# Altium footprint library 1.25MM.PcbLib: 10 footprints
Each footprint in its own frame and in the unit in brackets; x right, y up, seen from the top. Pads: shape width x height; smd on the part's side, far side on the other; paste and mask are expansions set on the pad; w line width, h text height; cw(c..) or ccw(c..) is an arc to the next point about the centre after c.
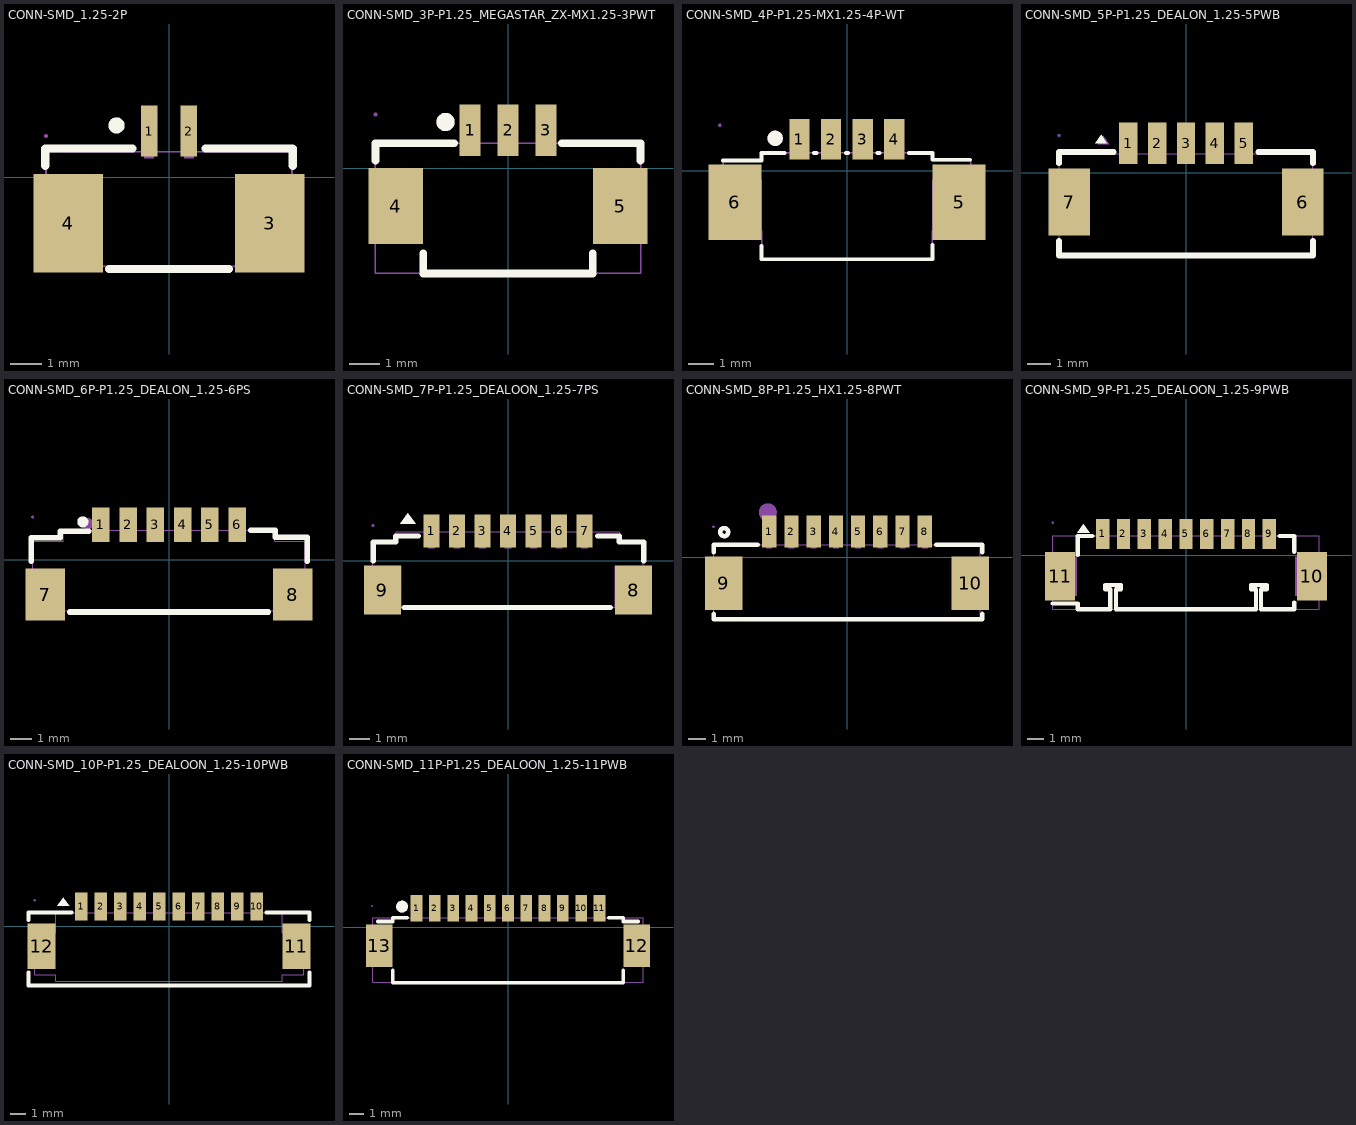
[diagram p0: the footprints below, top view; thin cyan lines are the x and y axes]

## CONN-SMD_1.25-2P [mm]
pads (4):
  rect 0.52x1.6 smd: 1(-0.625,1.45) 2(0.625,1.45)
  rect 2.2x3.1 smd: 3(3.175,-1.45) 4(-3.175,-1.45)
Top Overlay:
  circle w0.254: c-1.651,1.627 r0.127
  lines w0.254: -3.899,0.357 -3.899,0.901 -1.143,0.901 ; -1.894,-2.9 1.894,-2.9 ; 1.143,0.901 3.899,0.901 3.899,0.357
Mechanical 15:
  region: 0.775,1.292 0.775,0.592 0.475,0.592 0.475,1.292
  region: -0.475,1.292 -0.475,0.592 -0.775,0.592 -0.775,1.292
  region: 3.825,-2.803 2.625,-2.803 2.625,-0.503 3.825,-0.503
  region: -2.625,-2.803 -3.825,-2.803 -3.825,-0.503 -2.625,-0.503
  region: -3.815,1.292 -3.816,1.316 -3.851,1.349 -3.899,1.349 -3.934,1.316 -3.935,1.292 -3.934,1.268 -3.899,1.234 -3.851,1.234 -3.816,1.268 -3.815,1.292
  lines w0.051: -3.875,-2.804 3.875,-2.804 3.875,0.796 -3.875,0.796 -3.875,-2.804

## CONN-SMD_3P-P1.25_MEGASTAR_ZX-MX1.25-3PWT [mm]
pads (5):
  rect 0.7x1.7 smd paste+0 mask+0.05: 1(-1.25,1.25) 2(0,1.25) 3(1.25,1.25)
  rect 1.8x2.5 smd paste+0 mask+0.05: 4(-3.7,-1.25) 5(3.7,-1.25)
Top Overlay:
  circle w0.3: c-2.062,1.524 r0.15
  lines w0.254: -4.375,0.25 -4.375,0.825 -1.781,0.825 ; -2.8,-2.814 -2.8,-3.475 2.8,-3.475 2.8,-2.814 ; 1.781,0.825 4.375,0.825 4.375,0.25
Mechanical 6:
  circle w0.3: c-2.062,1.524 r0.15
Mechanical 15:
  region: 3.05,-0.25 4.35,-0.25 4.35,-2.25 3.05,-2.25
  region: -1.4,1.775 -1.1,1.775 -1.1,0.675 -1.4,0.675
  region: -0.15,1.775 0.15,1.775 0.15,0.675 -0.15,0.675
  region: 1.1,1.775 1.4,1.775 1.4,0.675 1.1,0.675
  region: -4.35,-0.25 -3.05,-0.25 -3.05,-2.25 -4.35,-2.25
  region: -4.315,1.775 -4.315,1.8 -4.35,1.835 -4.4,1.835 -4.435,1.8 -4.435,1.775 -4.435,1.75 -4.4,1.715 -4.35,1.715 -4.315,1.75 -4.315,1.775
  lines w0.051: -4.375,-3.475 -4.375,0.825 4.375,0.825 4.375,-3.475 -4.375,-3.475

## CONN-SMD_4P-P1.25-MX1.25-4P-WT [mm]
pads (6):
  rect 0.8x1.6 smd paste+0 mask+0.05: 1(-1.88,1.25) 2(-0.63,1.25) 3(0.62,1.25) 4(1.87,1.25)
  rect 2.1x3 smd paste+0 mask+0.05: 5(4.43,-1.25) 6(-4.43,-1.25)
Top Overlay:
  circle w0.3: c-2.84,1.28 r0.15
  lines w0.152: -4.901,0.399 -3.38,0.399 -3.38,0.43 -3.38,0.699 -2.46,0.699 ; -3.38,-2.98 -3.38,-3.5 3.38,-3.5 3.38,-2.93 ; -0.05,0.7 0.04,0.7 ; 1.2,0.7 1.29,0.7 ; 2.54,0.7 2.45,0.7 2.54,0.7 ; 2.54,0.7 3.38,0.7 3.38,0.43 4.87,0.43 ; 4.871,0.43 4.871,0.429 4.87,0.43 ; -1.3,0.7 -1.21,0.7 -1.3,0.7
Mechanical 6:
  circle w0.3: c-2.84,1.28 r0.15
Mechanical 15:
  region: -2.03,1.8 -1.73,1.8 -1.73,0.6 -2.03,0.6
  region: -0.78,1.8 -0.48,1.8 -0.48,0.6 -0.78,0.6
  region: 0.47,1.8 0.77,1.8 0.77,0.6 0.47,0.6
  region: 4.88,-0.36 5.025,-0.56 5.025,-2.17 4.88,-2.37 3.38,-2.37 3.38,-0.36
  region: -4.88,-2.37 -5.025,-2.17 -5.025,-0.56 -4.88,-0.36 -3.38,-0.36 -3.38,-2.37
  region: 1.72,1.8 2.02,1.8 2.02,0.6 1.72,0.6
  region: -4.965,1.8 -4.966,1.824 -5.001,1.858 -5.049,1.858 -5.084,1.824 -5.085,1.8 -5.084,1.776 -5.049,1.742 -5.001,1.742 -4.966,1.776 -4.965,1.8
  lines w0.051: -4.9,-2.369 -4.9,0.4 -3.38,0.4 -3.38,0.69 -3.38,0.7 3.38,0.7 3.38,0.4 4.9,0.4 4.9,-2.369 3.38,-2.369 3.38,-3.5 -3.38,-3.5 -3.38,-2.369 -4.9,-2.369

## CONN-SMD_5P-P1.25_DEALON_1.25-5PWB [mm]
pads (7):
  rect 0.8x1.8 smd paste+0 mask+0.05: 1(-2.5,1.275) 2(-1.25,1.275) 3(0,1.275) 4(1.25,1.275) 5(2.5,1.275)
  rect 1.8x2.9 smd paste+0 mask+0.05: 6(5.05,-1.275) 7(-5.05,-1.275)
Top Overlay:
  region: -3.683,1.651 -3.937,1.27 -3.429,1.27
  lines w0.254: -5.5,-2.956 -5.5,-3.589 5.5,-3.589 5.5,-2.956 ; -5.5,0.406 -5.5,0.889 -3.131,0.889 ; 3.131,0.889 5.5,0.889 5.5,0.406
Mechanical 6:
  region: -3.578,1.606 -3.832,1.225 -3.324,1.225
Mechanical 15:
  region: -5.44,1.611 -5.44,1.636 -5.475,1.671 -5.525,1.671 -5.56,1.636 -5.56,1.611 -5.56,1.586 -5.525,1.551 -5.475,1.551 -5.44,1.586 -5.44,1.611
  region: 2.35,1.611 2.65,1.611 2.65,0.711 2.35,0.711
  region: 1.1,1.611 1.4,1.611 1.4,0.711 1.1,0.711
  region: -0.15,1.611 0.15,1.611 0.15,0.711 -0.15,0.711
  region: -1.4,1.611 -1.1,1.611 -1.1,0.711 -1.4,0.711
  region: -2.65,1.611 -2.35,1.611 -2.35,0.711 -2.65,0.711
  region: 4.3,-0.275 5.5,-0.275 5.5,-2.275 4.3,-2.275
  region: -5.5,-0.275 -4.3,-0.275 -4.3,-2.275 -5.5,-2.275
  lines w0.051: -5.5,-3.589 -5.5,0.811 5.5,0.811 5.5,-3.589 -5.5,-3.589

## CONN-SMD_6P-P1.25_DEALON_1.25-6PS [mm]
pads (8):
  rect 0.8x1.6 smd paste+0 mask+0.05: 1(-3.125,1.6) 2(-1.875,1.6) 3(-0.625,1.6) 4(0.625,1.6) 5(1.875,1.6) 6(3.125,1.6)
  rect 1.8x2.4 smd paste+0 mask+0.05: 7(-5.675,-1.6) 8(5.675,-1.6)
Top Overlay:
  circle w0.254: c-3.95,1.73 r0.127
  lines w0.254: -6.31,-0.069 -6.31,1.01 -4.99,1.01 -4.99,1.31 -3.67,1.31 ; -4.544,-2.4 4.544,-2.4 ; 3.75,1.34 4.88,1.34 4.88,1.03 6.33,1.03 6.33,-0.069
Mechanical 6:
  circle w0.254: c-3.72,1.65 r0.127
Mechanical 15:
  region: -6.19,1.95 -6.19,1.975 -6.225,2.01 -6.275,2.01 -6.31,1.975 -6.31,1.95 -6.31,1.925 -6.275,1.89 -6.225,1.89 -6.19,1.925 -6.19,1.95
  region: 1.725,1.95 2.025,1.95 2.025,0.95 1.725,0.95
  region: 2.98,1.95 3.28,1.95 3.28,0.95 2.98,0.95
  region: 0.475,1.95 0.775,1.95 0.775,0.95 0.475,0.95
  region: -0.775,1.95 -0.475,1.95 -0.475,0.95 -0.775,0.95
  region: -2.025,1.95 -1.725,1.95 -1.725,0.95 -2.025,0.95
  region: -3.275,1.95 -2.975,1.95 -2.975,0.95 -3.275,0.95
  region: 4.95,-0.55 6.25,-0.55 6.25,-2.35 4.95,-2.35
  region: -6.25,-0.55 -4.95,-0.55 -4.95,-2.35 -6.25,-2.35
  lines w0.051: -6.25,-2.35 -6.25,0.85 -4.85,0.85 -4.85,1.35 4.85,1.35 4.85,0.85 6.25,0.85 6.25,-2.35 -6.25,-2.35

## CONN-SMD_7P-P1.25_DEALOON_1.25-7PS [mm]
pads (9):
  rect 0.8x1.6 smd paste+0 mask+0.05: 1(-3.75,1.45) 2(-2.5,1.45) 3(-1.25,1.45) 4(0,1.45) 5(1.25,1.45) 6(2.5,1.45) 7(3.75,1.45)
  rect 1.8x2.4 smd paste+0 mask+0.05: 8(6.15,-1.45) 9(-6.15,-1.45)
Top Overlay:
  region: -4.906,2.309 -5.287,1.801 -4.525,1.801
  lines w0.254: -6.6,-0.019 -6.6,0.9 -5.5,0.9 -5.5,1.2 -4.381,1.2 ; -5.1,-2.3 5.019,-2.3 ; 4.381,1.2 5.45,1.2 5.45,0.9 6.65,0.9 6.65,-0.019
Mechanical 6:
  region: -4.906,2.309 -5.287,1.801 -4.525,1.801
Mechanical 15:
  region: 5.225,-0.29 6.625,-0.29 6.625,-2.29 5.225,-2.29
  region: -6.625,-0.29 -5.225,-0.29 -5.225,-2.29 -6.625,-2.29
  region: -3.9,1.71 -3.6,1.71 -3.6,0.61 -3.9,0.61
  region: -2.65,1.71 -2.35,1.71 -2.35,0.61 -2.65,0.61
  region: -1.4,1.71 -1.1,1.71 -1.1,0.61 -1.4,0.61
  region: -0.15,1.71 0.15,1.71 0.15,0.61 -0.15,0.61
  region: 1.1,1.71 1.4,1.71 1.4,0.61 1.1,0.61
  region: 2.35,1.71 2.65,1.71 2.65,0.61 2.35,0.61
  region: 3.6,1.71 3.9,1.71 3.9,0.61 3.6,0.61
  region: -6.565,1.71 -6.566,1.735 -6.601,1.769 -6.65,1.769 -6.684,1.734 -6.685,1.71 -6.684,1.685 -6.649,1.651 -6.6,1.651 -6.566,1.686 -6.565,1.71
  lines w0.051: -6.625,-2.29 6.625,-2.29 6.625,0.92 5.47,0.92 5.47,1.41 -5.48,1.41 -5.48,0.91 -6.625,0.91 -6.625,-2.29

## CONN-SMD_8P-P1.25_HX1.25-8PWT [mm]
pads (10):
  rect 0.8x1.8 smd paste+0 mask+0.05: 1(-4.375,1.45) 2(-3.125,1.45) 3(-1.875,1.45) 4(-0.625,1.45) 5(0.625,1.45) 6(1.875,1.45) 7(3.125,1.45) 8(4.375,1.45)
  rect 2.1x3 smd paste+0 mask+0.05: 9(-6.93,-1.45) 10(6.93,-1.45)
Top Overlay:
  circle w0.254: c-6.9,1.42 r0.224
  lines w0.254: -7.5,-3.18 -7.5,-3.48 7.407,-3.48 7.6,-3.48 7.6,-3.18 ; -7.5,0.281 -7.5,0.72 -5.006,0.72 ; 5.006,0.72 7.6,0.72 7.6,0.281
Mechanical 6:
  circle w0.5: c-4.445,2.54 r0.25
Mechanical 15:
  region: -4.525,1.72 -4.225,1.72 -4.225,0.52 -4.525,0.52
  region: -3.275,1.72 -2.975,1.72 -2.975,0.52 -3.275,0.52
  region: -2.025,1.72 -1.725,1.72 -1.725,0.52 -2.025,0.52
  region: -0.775,1.72 -0.475,1.72 -0.475,0.52 -0.775,0.52
  region: 0.475,1.72 0.775,1.72 0.775,0.52 0.475,0.52
  region: 1.725,1.72 2.025,1.72 2.025,0.52 1.725,0.52
  region: 2.975,1.72 3.275,1.72 3.275,0.52 2.975,0.52
  region: 4.225,1.72 4.525,1.72 4.525,0.52 4.225,0.52
  region: -7.5,-0.45 -6.1,-0.45 -6.1,-2.45 -7.5,-2.45
  region: 6.1,-0.45 7.5,-0.45 7.5,-2.45 6.1,-2.45
  region: -7.44,1.72 -7.441,1.744 -7.476,1.778 -7.524,1.778 -7.559,1.744 -7.56,1.72 -7.559,1.695 -7.524,1.662 -7.476,1.662 -7.441,1.695 -7.44,1.72
  lines w0.051: -7.5,-3.529 7.5,-3.529 7.5,0.721 -7.5,0.721 -7.5,-3.529

## CONN-SMD_9P-P1.25_DEALOON_1.25-9PWB [mm]
pads (11):
  rect 0.8x1.8 smd paste+0 mask+0.05: 1(-5,1.275) 2(-3.75,1.275) 3(-2.5,1.275) 4(-1.25,1.275) 5(0,1.275) 6(1.25,1.275) 7(2.5,1.275) 8(3.75,1.275) 9(5,1.275)
  rect 1.8x2.9 smd paste+0 mask+0.05: 10(7.55,-1.275) 11(-7.55,-1.275)
Top Overlay:
  region: -6.156,1.834 -6.537,1.326 -5.775,1.326
  lines w0.254: -8,-2.9 -6.5,-2.9 -6.5,-3.25 -4.55,-3.25 -4.55,-2.05 -4.85,-2.05 -4.85,-1.8 -3.9,-1.8 -3.9,-2.05 -4.2,-2.05 -4.2,-3.25 4.2,-3.25 4.2,-2.05 3.9,-2.05 3.9,-1.8 4.85,-1.8 4.85,-2.05 4.5,-2.05 4.5,-3.25 6.5,-3.25 6.5,-2.85 ; -6.5,0 -6.5,1.15 -5.631,1.15 ; 5.631,1.15 6.5,1.15 6.5,0.2
Mechanical 6:
  region: -6.5,1.35 -5.8,1.35 -6.15,1.85
Mechanical 15:
  region: 4.85,1.95 5.15,1.95 5.15,0.75 4.85,0.75
  region: 3.6,1.95 3.9,1.95 3.9,0.75 3.6,0.75
  region: 2.35,1.95 2.65,1.95 2.65,0.75 2.35,0.75
  region: 1.1,1.95 1.4,1.95 1.4,0.75 1.1,0.75
  region: -0.15,1.95 0.15,1.95 0.15,0.75 -0.15,0.75
  region: -1.4,1.95 -1.1,1.95 -1.1,0.75 -1.4,0.75
  region: -2.65,1.95 -2.35,1.95 -2.35,0.75 -2.65,0.75
  region: -3.9,1.95 -3.6,1.95 -3.6,0.75 -3.9,0.75
  region: -5.15,1.95 -4.85,1.95 -4.85,0.75 -5.15,0.75
  region: 6.56,-0.115 8,-0.115 8,-2.435 6.56,-2.435
  region: -8,-0.115 -6.56,-0.115 -6.56,-2.435 -8,-2.435
  region: -7.94,1.95 -7.94,1.975 -7.975,2.01 -8.025,2.01 -8.06,1.975 -8.06,1.95 -8.06,1.925 -8.025,1.89 -7.975,1.89 -7.94,1.925 -7.94,1.95
  lines w0.051: -8,-3.25 -8,1.15 8,1.15 8,-3.25 -8,-3.25

## CONN-SMD_10P-P1.25_DEALOON_1.25-10PWB [mm]
pads (12):
  rect 0.8x1.8 smd paste+0 mask+0.05: 1(-5.625,1.275) 2(-4.375,1.275) 3(-3.125,1.275) 4(-1.875,1.275) 5(-0.625,1.275) 6(0.625,1.275) 7(1.875,1.275) 8(3.125,1.275) 9(4.375,1.275) 10(5.625,1.275)
  rect 1.8x2.9 smd paste+0 mask+0.05: 11(8.175,-1.275) 12(-8.175,-1.275)
Top Overlay:
  region: -6.781,1.834 -7.162,1.326 -6.4,1.326
  lines w0.254: -9.027,0.406 -9.027,0.894 -6.256,0.894 ; -9.026,-2.956 -9.026,-3.805 9.026,-3.805 ; 6.256,0.894 9.027,0.894 9.027,0.406 ; 9.025,-3.805 9.025,-2.956
Mechanical 6:
  region: -6.781,1.834 -7.162,1.326 -6.4,1.326
Mechanical 15:
  region: -8.565,1.676 -8.566,1.7 -8.601,1.733 -8.649,1.733 -8.684,1.7 -8.685,1.676 -8.684,1.652 -8.649,1.619 -8.601,1.619 -8.566,1.652 -8.565,1.676
  region: 5.475,1.676 5.775,1.676 5.775,0.676 5.475,0.676
  region: 4.225,1.676 4.525,1.676 4.525,0.676 4.225,0.676
  region: 2.975,1.676 3.275,1.676 3.275,0.676 2.975,0.676
  region: 1.725,1.676 2.025,1.676 2.025,0.676 1.725,0.676
  region: 0.475,1.676 0.775,1.676 0.775,0.676 0.475,0.676
  region: -0.775,1.676 -0.475,1.676 -0.475,0.676 -0.775,0.676
  region: -2.025,1.676 -1.725,1.676 -1.725,0.676 -2.025,0.676
  region: -3.275,1.676 -2.975,1.676 -2.975,0.676 -3.275,0.676
  region: -4.525,1.676 -4.225,1.676 -4.225,0.676 -4.525,0.676
  region: -5.775,1.676 -5.475,1.676 -5.475,0.676 -5.775,0.676
  region: -8.625,-0.425 -7.625,-0.425 -7.625,-2.425 -8.625,-2.425
  region: 7.625,-0.425 8.625,-0.425 8.625,-2.425 7.625,-2.425
  lines w0.051: -8.625,-3.124 -8.625,-0.424 -7.275,-0.424 -7.275,0.876 7.275,0.876 7.275,-0.424 8.636,-0.424 8.637,-0.425 8.637,-3.123 8.638,-3.124 7.275,-3.124 7.275,-3.524 -7.275,-3.524 -7.275,-3.124 -8.625,-3.124

## CONN-SMD_11P-P1.25_DEALOON_1.25-11PWB [mm]
pads (13):
  rect 0.8x1.8 smd paste+0 mask+0.05: 1(-6.25,1.275) 2(-5,1.275) 3(-3.75,1.275) 4(-2.5,1.275) 5(-1.25,1.275) 6(0,1.275) 7(1.25,1.275) 8(2.5,1.275) 9(3.75,1.275) 10(5,1.275) 11(6.25,1.275)
  rect 1.8x2.9 smd paste+0 mask+0.05: 12(8.8,-1.275) 13(-8.8,-1.275)
Top Overlay:
  circle w0.4: c-7.239,1.397 r0.2
  lines w0.254: -8.89,0.381 -7.874,0.381 -7.874,0.635 -6.881,0.635 ; -7.874,-2.955 -7.874,-3.81 7.874,-3.81 7.874,-2.955 ; 6.881,0.635 7.874,0.635 7.874,0.381 8.89,0.381
Mechanical 6:
  circle w0.4: c-7.239,1.397 r0.2
Mechanical 15:
  region: -9.3,-0.275 -8.3,-0.275 -8.3,-2.275 -9.3,-2.275
  region: 8.3,-0.275 9.3,-0.275 9.3,-2.275 8.3,-2.275
  region: 6.1,1.428 6.4,1.428 6.4,0.428 6.1,0.428
  region: 4.85,1.428 5.15,1.428 5.15,0.428 4.85,0.428
  region: 3.6,1.428 3.9,1.428 3.9,0.428 3.6,0.428
  region: 2.35,1.428 2.65,1.428 2.65,0.428 2.35,0.428
  region: 1.1,1.428 1.4,1.428 1.4,0.428 1.1,0.428
  region: -0.15,1.428 0.15,1.428 0.15,0.428 -0.15,0.428
  region: -1.4,1.428 -1.1,1.428 -1.1,0.428 -1.4,0.428
  region: -2.65,1.428 -2.35,1.428 -2.35,0.428 -2.65,0.428
  region: -3.9,1.428 -3.6,1.428 -3.6,0.428 -3.9,0.428
  region: -5.15,1.428 -4.85,1.428 -4.85,0.428 -5.15,0.428
  region: -6.4,1.428 -6.1,1.428 -6.1,0.428 -6.4,0.428
  region: -9.24,1.428 -9.241,1.452 -9.276,1.486 -9.324,1.486 -9.359,1.452 -9.36,1.428 -9.359,1.404 -9.324,1.37 -9.276,1.37 -9.241,1.404 -9.24,1.428
  lines w0.051: -9.25,-3.772 9.25,-3.772 9.25,0.628 -9.25,0.628 -9.25,-3.772